# EAGLE library part USB4180-03-0120-C (library USB4180-03-0120-C)
Global Connector Technology (GCT) USB-C Plug, Vert, H11mm, SMT, No Latches, 6pin, 1.2mm stakes Source: Datasheet <https://gct.co/connector/usb4180#>
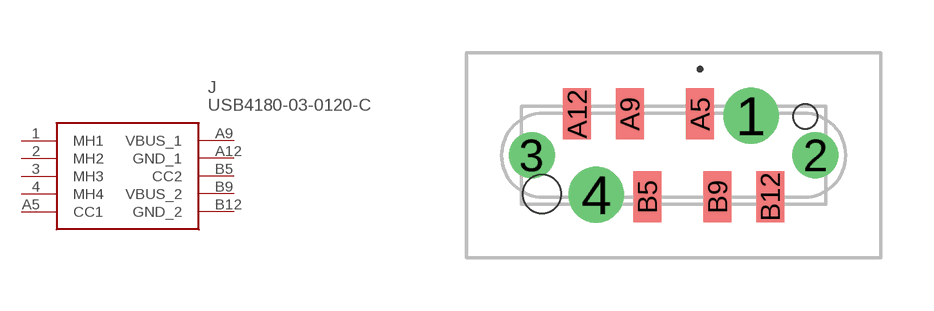
[diagram p0: symbol with the pads of USB4180030120C; footprint USB4180030120C]

Designator prefix J

## USB4180-03-0120-C (Description: Global Connector Technology (GCT) USB-C Plug, Vert, H11mm, SMT, No Latches, 6pin, 1.2mm stakes; Height: 12.5mm; Manufacturer_Name: GCT (GLOBAL CONNECTOR TECHNOLOGY); Manufacturer_Part_Number: USB4180-03-0120-C; Mouser_Part_Number: 640-USB4180-03-0120C; Mouser_Price-Stock: https://www.mouser.co.uk/ProductDetail/GCT/USB4180-03-0120-C?qs=63Lh8XYXgjuxdGoYXvLhgw%3D%3D)  [USB4180030120C]
1  MH1
2  MH2
3  MH3
4  MH4
A5  CC1
A9  VBUS_1
A12  GND_1
B5  CC2
B9  VBUS_2
B12  GND_2

## Footprint USB4180030120C (pad centres in mm)
USB4180-03-0120-C-2
drill 1.06 pad 1.59: 1 2.205,1.125; 4 -2.205,-1.125
drill 0.8 pad 1.1: 2 4.04,0; 3 -4.04,0
smd 0.8 x 1.46: A5 0.75,1.18; A9 -1.25,1.18; A12 -2.75,1.18; B5 -0.75,-1.18; B9 1.25,-1.18; B12 2.75,-1.18
hole 0.7 at 3.75,1.1
hole 1.1 at -3.75,-1.1